# EAGLE library part 74*125 (library SparkFun-IC-Logic)
Quad inverter with enable BUFF TRI-ST QD N-INV 14SOIC SparkFun Products Pocket AVR Programmer <https://www.sparkfun.com/products/9825> (PGM-09825) SparkFun Line Follower Array <https://www.sparkfun.com/products/13582> (SEN-13582)
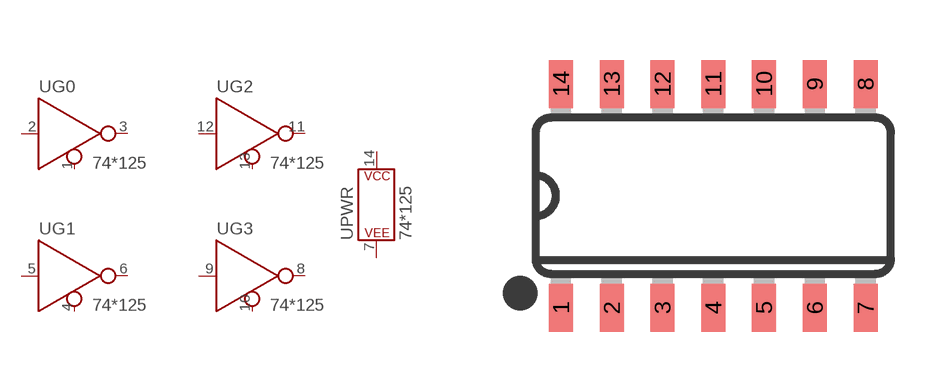
[diagram p0: symbol with the pads of SO14; footprint SO14]

Designator prefix U; gates G0=GATE_INVERTER_WITH_ENABLE G1=GATE_INVERTER_WITH_ENABLE G2=GATE_INVERTER_WITH_ENABLE G3=GATE_INVERTER_WITH_ENABLE PWR=POWER_CONSORT

## 74AC125DG (PROD_ID: IC-08880; VALUE: MC74AC125DG)  [SO14]
1  G0:!EN
2  G0:A
3  G0:Y
4  G1:!EN
5  G1:A
6  G1:Y
7  PWR:P$V-
8  G3:Y
9  G3:A
10  G3:!EN
11  G2:Y
12  G2:A
13  G2:!EN
14  PWR:P$V+

## Footprint SO14 (pad centres in mm)
smd 0.6 x 1.2: 1 -3.175,-2.8; 2 -1.905,-2.8; 3 -0.635,-2.8; 4 0.635,-2.8; 5 1.905,-2.8; 6 3.175,-2.8; 7 4.445,-2.8; 8 4.445,2.8; 9 3.175,2.8; 10 1.905,2.8; 11 0.635,2.8; 12 -0.635,2.8; 13 -1.905,2.8; 14 -3.175,2.8